# Altium schematic symbol library NMOS (Infineon).SchLib: 1 symbol
Pins are listed as number, name and electrical type; pins without a type are passive.

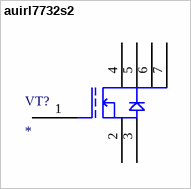
[diagram p0: symbol auirl7732s2]

## auirl7732s2
designator VT?
Vds: 40V; Vgs: ±16V; Tj: -55 to +175°C; Rds(on) max: 6.6mohm; Id max: 58A
footprint DirectFET SC
pins: 1, 2 10, 3 14, 4 11, 5 12, 6 13, 7 13